# EAGLE library part XC7S50-1CSGA324C (library XC7S50-1CSGA324C)
Check availability <https://pricing.snapeda.com/parts/XC7S50-1CSGA324C/Xilinx%20Inc./view-part?ref=eda>
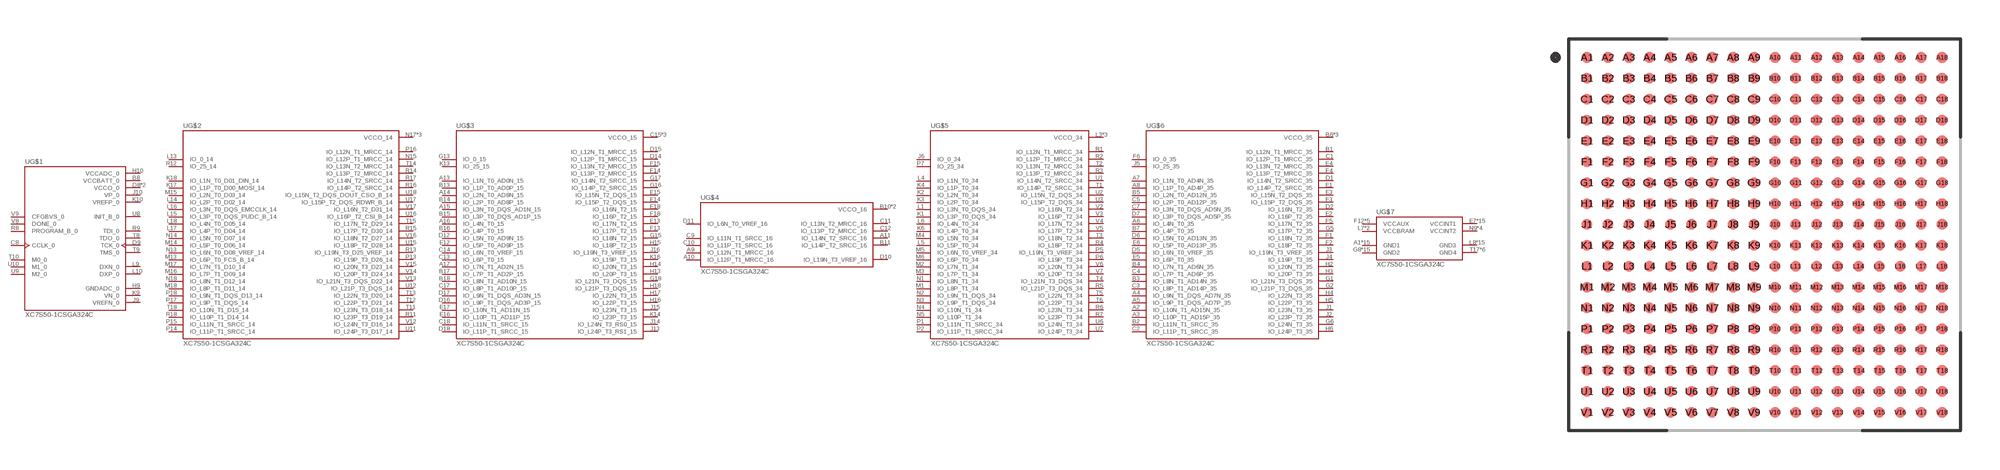
[diagram p0: symbol with the pads of BGA324C80P18X18_1500X1500X150; footprint BGA324C80P18X18_1500X1500X150]

Designator prefix U; gates G$1=XC7S50-1CSGA324C_BANK0 G$2=XC7S50-1CSGA324C_BANK14 G$3=XC7S50-1CSGA324C_BANK15 G$4=XC7S50-1CSGA324C_BANK16 G$5=XC7S50-1CSGA324C_BANK34 G$6=XC7S50-1CSGA324C_BANK35 G$7=XC7S50-1CSGA324C_POWER

## XC7S50-1CSGA324C (Availability: In Stock; Check_prices: https://www.snapeda.com/parts/XC7S50-1CSGA324C/Xilinx/view-part/?ref=eda; Description: Spartan®-7 Field Programmable Gate Array (FPGA) IC 210 2764800 52160 324-LFBGA, CSPBGA; MF: Xilinx Inc.; MP: XC7S50-1CSGA324C; Package: LFBGA-324 Xilinx; Price: None; SnapEDA_Link: https://www.snapeda.com/parts/XC7S50-1CSGA324C/Xilinx/view-part/?ref=snap)  [BGA324C80P18X18_1500X1500X150]
A1  G$7:GND1  pwr
A2  G$6:IO_L10N_T1_AD15N_35
A3  G$6:IO_L10P_T1_AD15P_35
A4  G$6:IO_L9N_T1_DQS_AD7N_35
A5  G$6:IO_L9P_T1_DQS_AD7P_35
A6  G$6:IO_L4N_T0_35
A7  G$6:IO_L1N_T0_AD4N_35
A8  G$6:IO_L1P_T0_AD4P_35
A9  G$4:IO_L12N_T1_MRCC_16
A10  G$4:IO_L12P_T1_MRCC_16
A11  G$4:IO_L14N_T2_SRCC_16
A12  G$7:GND1  pwr
A13  G$3:IO_L1N_T0_AD0N_15
A14  G$3:IO_L2N_T0_AD8N_15
A15  G$3:IO_L3N_T0_DQS_AD1N_15
A16  G$3:IO_L4N_T0_15
A17  G$3:IO_L7N_T1_AD2N_15
A18  G$7:GND1  pwr
B1  G$6:IO_L12N_T1_MRCC_35
B2  G$6:IO_L11N_T1_SRCC_35
B3  G$6:IO_L8N_T1_AD14N_35
B4  G$6:IO_L7N_T1_AD6N_35
B5  G$6:IO_L2N_T0_AD12N_35
B6  G$6:VCCO_35  pwr
B7  G$6:IO_L4P_T0_35
B8  G$1:VCCBATT_0  pwr
B9  G$7:GND1  pwr
B10  G$4:VCCO_16  pwr
B11  G$4:IO_L14P_T2_SRCC_16
B12  G$4:VCCO_16  pwr
B13  G$3:IO_L1P_T0_AD0P_15
B14  G$3:IO_L2P_T0_AD8P_15
B15  G$3:IO_L3P_T0_DQS_AD1P_15
B16  G$3:IO_L4P_T0_15
B17  G$3:IO_L7P_T1_AD2P_15
B18  G$3:IO_L8N_T1_AD10N_15
C1  G$6:IO_L12P_T1_MRCC_35
C2  G$6:IO_L11P_T1_SRCC_35
C3  G$6:IO_L8P_T1_AD14P_35
C4  G$6:IO_L7P_T1_AD6P_35
C5  G$6:IO_L2P_T0_AD12P_35
C6  G$7:GND1  pwr
C7  G$6:IO_L3N_T0_DQS_AD5N_35
C8  G$1:CCLK_0
C9  G$4:IO_L11N_T1_SRCC_16
C10  G$4:IO_L11P_T1_SRCC_16
C11  G$4:IO_L13N_T2_MRCC_16
C12  G$4:IO_L13P_T2_MRCC_16
C13  G$3:IO_L6P_T0_15
C14  G$3:IO_L6N_T0_VREF_15
C15  G$3:VCCO_15  pwr
C16  G$7:GND1  pwr
C17  G$3:IO_L8P_T1_AD10P_15
C18  G$3:IO_L11N_T1_SRCC_15
D1  G$6:IO_L14N_T2_SRCC_35
D2  G$6:IO_L16N_T2_35
D3  G$7:GND1  pwr
D4  G$6:VCCO_35  pwr
D5  G$6:IO_L6N_T0_VREF_35
D6  G$6:IO_L5N_T0_AD13N_35
D7  G$6:IO_L3P_T0_DQS_AD5P_35
D8  G$1:VCCO_0  pwr
D9  G$1:TCK_0  in
D10  G$4:IO_L19N_T3_VREF_16
D11  G$4:IO_L6N_T0_VREF_16
D12  G$3:IO_L5N_T0_AD9N_15
D13  G$7:GND1  pwr
D14  G$3:IO_L12P_T1_MRCC_15
D15  G$3:IO_L12N_T1_MRCC_15
D16  G$3:IO_L9P_T1_DQS_AD3P_15
D17  G$3:IO_L9N_T1_DQS_AD3N_15
D18  G$3:IO_L11P_T1_SRCC_15
E1  G$6:IO_L14P_T2_SRCC_35
E2  G$6:IO_L16P_T2_35
E3  G$6:IO_L15N_T2_DQS_35
E4  G$6:IO_L13N_T2_MRCC_35
E5  G$6:IO_L6P_T0_35
E6  G$6:IO_L5P_T0_AD13P_35
E7  G$7:VCCINT1  pwr
E8  G$7:GND1  pwr
E9  G$7:VCCINT1  pwr
E10  G$7:GND1  pwr
E11  G$7:VCCINT1  pwr
E12  G$3:IO_L5P_T0_AD9P_15
E13  G$3:IO_L17N_T2_15
E14  G$3:IO_L15P_T2_DQS_15
E15  G$3:IO_L15N_T2_DQS_15
E16  G$3:IO_L10P_T1_AD11P_15
E17  G$3:IO_L10N_T1_AD11N_15
E18  G$3:IO_L16N_T2_15
F1  G$6:IO_L18N_T2_35
F2  G$6:IO_L18P_T2_35
F3  G$6:IO_L15P_T2_DQS_35
F4  G$6:IO_L13P_T2_MRCC_35
F5  G$6:IO_L17N_T2_35
F6  G$6:IO_0_35
F7  G$7:GND1  pwr
F8  G$7:VCCINT1  pwr
F9  G$7:GND1  pwr
F10  G$7:VCCINT1  pwr
F11  G$7:GND1  pwr
F12  G$7:VCCAUX  pwr
F13  G$3:IO_L17P_T2_15
F14  G$3:IO_L13P_T2_MRCC_15
F15  G$3:IO_L13N_T2_MRCC_15
F16  G$3:VCCO_15  pwr
F17  G$7:GND1  pwr
F18  G$3:IO_L16P_T2_15
G1  G$6:IO_L21N_T3_DQS_35
G2  G$6:IO_L21P_T3_DQS_35
G3  G$6:VCCO_35  pwr
G4  G$7:GND1  pwr
G5  G$6:IO_L17P_T2_35
G6  G$6:IO_L24N_T3_35
G7  G$7:VCCINT1  pwr
G8  G$7:GND2  pwr
G9  G$7:VCCINT1  pwr
G10  G$7:GND2  pwr
G11  G$7:VCCINT1  pwr
G12  G$7:GND2  pwr
G13  G$3:IO_0_15
G14  G$7:GND2  pwr
G15  G$3:IO_L18N_T2_15
G16  G$3:IO_L14P_T2_SRCC_15
G17  G$3:IO_L14N_T2_SRCC_15
G18  G$3:IO_L21N_T3_DQS_15
H1  G$7:GND2  pwr
H2  G$6:IO_L20N_T3_35
H3  G$6:IO_L20P_T3_35
H4  G$6:IO_L22N_T3_35
H5  G$6:IO_L22P_T3_35
H6  G$6:IO_L24P_T3_35
H7  G$7:GND2  pwr
H8  G$7:VCCINT1  pwr
H9  G$1:GNDADC_0  pwr
H10  G$1:VCCADC_0  pwr
H11  G$7:GND2  pwr
H12  G$7:VCCAUX  pwr
H13  G$3:IO_L20P_T3_15
H14  G$3:IO_L20N_T3_15
H15  G$3:IO_L18P_T2_15
H16  G$3:IO_L22P_T3_15
H17  G$3:IO_L22N_T3_15
H18  G$3:IO_L21P_T3_DQS_15
J1  G$6:IO_L23N_T3_35
J2  G$6:IO_L23P_T3_35
J3  G$6:IO_L19N_T3_VREF_35
J4  G$6:IO_L19P_T3_35
J5  G$6:IO_25_35
J6  G$5:IO_0_34
J7  G$7:VCCINT1  pwr
J8  G$7:GND2  pwr
J9  G$1:VREFN_0  pwr
J10  G$1:VP_0  pwr
J11  G$7:VCCINT1  pwr
J12  G$7:GND2  pwr
J13  G$3:IO_L24P_T3_RS1_15
J14  G$3:IO_L24N_T3_RS0_15
J15  G$3:IO_L23N_T3_15
J16  G$3:IO_L19N_T3_VREF_15
J17  G$3:VCCO_15  pwr
J18  G$7:GND2  pwr
K1  G$5:IO_L3P_T0_DQS_34
K2  G$5:IO_L2N_T0_34
K3  G$5:IO_L2P_T0_34
K4  G$5:IO_L1P_T0_34
K5  G$7:GND2  pwr
K6  G$5:IO_L4P_T0_34
K7  G$7:GND2  pwr
K8  G$7:VCCINT1  pwr
K9  G$1:VN_0  pwr
K10  G$1:VREFP_0  pwr
K11  G$7:GND2  pwr
K12  G$7:VCCAUX  pwr
K13  G$3:IO_25_15
K14  G$3:IO_L23P_T3_15
K15  G$7:GND2  pwr
K16  G$3:IO_L19P_T3_15
K17  G$2:IO_L1P_T0_D00_MOSI_14
K18  G$2:IO_L1N_T0_D01_DIN_14
L1  G$5:IO_L3N_T0_DQS_34
L2  G$7:GND2  pwr
L3  G$5:VCCO_34  pwr
L4  G$5:IO_L1N_T0_34
L5  G$5:IO_L5P_T0_34
L6  G$5:IO_L4N_T0_34
L7  G$7:VCCBRAM  pwr
L8  G$7:GND3  pwr
L9  G$1:DXN_0
L10  G$1:DXP_0
L11  G$7:VCCINT1  pwr
L12  G$7:GND3  pwr
L13  G$2:IO_0_14
L14  G$2:IO_L2P_T0_D02_14
L15  G$2:IO_L3P_T0_DQS_PUDC_B_14
L16  G$2:IO_L3N_T0_DQS_EMCCLK_14
L17  G$2:IO_L4P_T0_D04_14
L18  G$2:IO_L4N_T0_D05_14
M1  G$5:IO_L8P_T1_34
M2  G$5:IO_L7N_T1_34
M3  G$5:IO_L7P_T1_34
M4  G$5:IO_L5N_T0_34
M5  G$5:IO_L6N_T0_VREF_34
M6  G$5:IO_L6P_T0_34
M7  G$7:GND3  pwr
M8  G$7:VCCINT1  pwr
M9  G$7:GND3  pwr
M10  G$7:VCCINT1  pwr
M11  G$7:GND3  pwr
M12  G$7:VCCAUX  pwr
M13  G$2:IO_L6P_T0_FCS_B_14
M14  G$2:IO_L5P_T0_D06_14
M15  G$2:IO_L2N_T0_D03_14
M16  G$2:IO_L7P_T1_D09_14
M17  G$2:IO_L7N_T1_D10_14
M18  G$2:IO_L8P_T1_D11_14
N1  G$5:IO_L8N_T1_34
N2  G$5:IO_L9N_T1_DQS_34
N3  G$5:IO_L9P_T1_DQS_34
N4  G$5:IO_L10N_T1_34
N5  G$5:IO_L10P_T1_34
N6  G$7:GND3  pwr
N7  G$7:VCCBRAM  pwr
N8  G$7:GND3  pwr
N9  G$7:VCCINT2  pwr
N10  G$7:GND3  pwr
N11  G$7:VCCINT2  pwr
N12  G$7:GND3  pwr
N13  G$2:IO_L6N_T0_D08_VREF_14
N14  G$2:IO_L5N_T0_D07_14
N15  G$2:IO_L12P_T1_MRCC_14
N16  G$7:GND3  pwr
N17  G$2:VCCO_14  pwr
N18  G$2:IO_L8N_T1_D12_14
P1  G$5:IO_L11N_T1_SRCC_34
P2  G$5:IO_L11P_T1_SRCC_34
P3  G$7:GND3  pwr
P4  G$5:VCCO_34  pwr
P5  G$5:IO_L19N_T3_VREF_34
P6  G$5:IO_L19P_T3_34
P7  G$5:IO_25_34
P8  G$7:VCCINT2  pwr
P9  G$7:GND3  pwr
P10  G$7:VCCINT2  pwr
P11  G$7:GND3  pwr
P12  G$7:VCCAUX  pwr
P13  G$2:IO_L19P_T3_D26_14
P14  G$2:IO_L11P_T1_SRCC_14
P15  G$2:IO_L11N_T1_SRCC_14
P16  G$2:IO_L12N_T1_MRCC_14
P17  G$2:IO_L9P_T1_DQS_14
P18  G$2:IO_L9N_T1_DQS_D13_14
R1  G$5:IO_L12N_T1_MRCC_34
R2  G$5:IO_L12P_T1_MRCC_34
R3  G$5:IO_L13P_T2_MRCC_34
R4  G$5:IO_L18P_T2_34
R5  G$5:IO_L21P_T3_DQS_34
R6  G$5:IO_L23N_T3_34
R7  G$5:IO_L23P_T3_34
R8  G$1:PROGRAM_B_0  in
R9  G$1:TDI_0  in
R10  G$7:GND3  pwr
R11  G$2:IO_L23P_T3_D19_14
R12  G$2:IO_25_14
R13  G$2:IO_L19N_T3_D25_VREF_14
R14  G$2:IO_L13P_T2_MRCC_14
R15  G$2:IO_L17P_T2_D30_14
R16  G$2:IO_L14P_T2_SRCC_14
R17  G$2:IO_L14N_T2_SRCC_14
R18  G$2:IO_L10P_T1_D14_14
T1  G$5:IO_L14P_T2_SRCC_34
T2  G$5:IO_L13N_T2_MRCC_34
T3  G$5:IO_L18N_T2_34
T4  G$5:IO_L21N_T3_DQS_34
T5  G$5:IO_L22N_T3_34
T6  G$5:IO_L22P_T3_34
T7  G$7:GND3  pwr
T8  G$1:TDO_0  out
T9  G$1:TMS_0
T10  G$1:M0_0  pas
T11  G$2:IO_L23N_T3_D18_14
T12  G$2:IO_L22P_T3_D21_14
T13  G$2:IO_L22N_T3_D20_14
T14  G$2:IO_L13N_T2_MRCC_14
T15  G$2:IO_L17N_T2_D29_14
T16  G$2:VCCO_14  pwr
T17  G$7:GND4  pwr
T18  G$2:IO_L10N_T1_D15_14
U1  G$5:IO_L14N_T2_SRCC_34
U2  G$5:IO_L15N_T2_DQS_34
U3  G$5:IO_L15P_T2_DQS_34
U4  G$7:GND4  pwr
U5  G$5:VCCO_34  pwr
U6  G$5:IO_L24N_T3_34
U7  G$5:IO_L24P_T3_34
U8  G$1:INIT_B_0  out
U9  G$1:M2_0  pas
U10  G$1:M1_0  pas
U11  G$2:IO_L24P_T3_D17_14
U12  G$2:IO_L21P_T3_DQS_14
U13  G$2:VCCO_14  pwr
U14  G$7:GND4  pwr
U15  G$2:IO_L18P_T2_D28_14
U16  G$2:IO_L16P_T2_CSI_B_14
U17  G$2:IO_L15P_T2_DQS_RDWR_B_14
U18  G$2:IO_L15N_T2_DQS_DOUT_CSO_B_14
V1  G$7:GND4  pwr
V2  G$5:IO_L16N_T2_34
V3  G$5:IO_L16P_T2_34
V4  G$5:IO_L17N_T2_34
V5  G$5:IO_L17P_T2_34
V6  G$5:IO_L20N_T3_34
V7  G$5:IO_L20P_T3_34
V8  G$1:DONE_0  in
V9  G$1:CFGBVS_0  in
V10  G$1:VCCO_0  pwr
V11  G$7:GND4  pwr
V12  G$2:IO_L24N_T3_D16_14
V13  G$2:IO_L21N_T3_DQS_D22_14
V14  G$2:IO_L20P_T3_D24_14
V15  G$2:IO_L20N_T3_D23_14
V16  G$2:IO_L18N_T2_D27_14
V17  G$2:IO_L16N_T2_D31_14
V18  G$7:GND4  pwr

## Footprint BGA324C80P18X18_1500X1500X150 (pad centres in mm)
smd 0.41 x 0.41: A1 -6.8,6.8; A2 -6,6.8; A3 -5.2,6.8; A4 -4.4,6.8; A5 -3.6,6.8; A6 -2.8,6.8; A7 -2,6.8; A8 -1.2,6.8; A9 -0.4,6.8; A10 0.4,6.8; A11 1.2,6.8; A12 2,6.8; A13 2.8,6.8; A14 3.6,6.8; A15 4.4,6.8; A16 5.2,6.8; A17 6,6.8; A18 6.8,6.8; B1 -6.8,6; B2 -6,6; B3 -5.2,6; B4 -4.4,6; B5 -3.6,6; B6 -2.8,6; B7 -2,6; B8 -1.2,6; B9 -0.4,6; B10 0.4,6; B11 1.2,6; B12 2,6; B13 2.8,6; B14 3.6,6; B15 4.4,6; B16 5.2,6; B17 6,6; B18 6.8,6; C1 -6.8,5.2; C2 -6,5.2; C3 -5.2,5.2; C4 -4.4,5.2; C5 -3.6,5.2; C6 -2.8,5.2; C7 -2,5.2; C8 -1.2,5.2; C9 -0.4,5.2; C10 0.4,5.2; C11 1.2,5.2; C12 2,5.2; C13 2.8,5.2; C14 3.6,5.2; C15 4.4,5.2; C16 5.2,5.2; C17 6,5.2; C18 6.8,5.2; D1 -6.8,4.4; D2 -6,4.4; D3 -5.2,4.4; D4 -4.4,4.4; D5 -3.6,4.4; D6 -2.8,4.4; D7 -2,4.4; D8 -1.2,4.4; D9 -0.4,4.4; D10 0.4,4.4; D11 1.2,4.4; D12 2,4.4; D13 2.8,4.4; D14 3.6,4.4; D15 4.4,4.4; D16 5.2,4.4; D17 6,4.4; D18 6.8,4.4; E1 -6.8,3.6; E2 -6,3.6; E3 -5.2,3.6; E4 -4.4,3.6; E5 -3.6,3.6; E6 -2.8,3.6; E7 -2,3.6; E8 -1.2,3.6; E9 -0.4,3.6; E10 0.4,3.6; E11 1.2,3.6; E12 2,3.6; E13 2.8,3.6; E14 3.6,3.6; E15 4.4,3.6; E16 5.2,3.6; E17 6,3.6; E18 6.8,3.6; F1 -6.8,2.8; F2 -6,2.8; F3 -5.2,2.8; F4 -4.4,2.8; F5 -3.6,2.8; F6 -2.8,2.8; F7 -2,2.8; F8 -1.2,2.8; F9 -0.4,2.8; F10 0.4,2.8; F11 1.2,2.8; F12 2,2.8; F13 2.8,2.8; F14 3.6,2.8; F15 4.4,2.8; F16 5.2,2.8; F17 6,2.8; F18 6.8,2.8; G1 -6.8,2; G2 -6,2; G3 -5.2,2; G4 -4.4,2; G5 -3.6,2; G6 -2.8,2; G7 -2,2; G8 -1.2,2; G9 -0.4,2; G10 0.4,2; G11 1.2,2; G12 2,2; G13 2.8,2; G14 3.6,2; G15 4.4,2; G16 5.2,2; G17 6,2; G18 6.8,2; H1 -6.8,1.2; H2 -6,1.2; H3 -5.2,1.2; H4 -4.4,1.2; H5 -3.6,1.2; H6 -2.8,1.2; H7 -2,1.2; H8 -1.2,1.2; H9 -0.4,1.2; H10 0.4,1.2; H11 1.2,1.2; H12 2,1.2; H13 2.8,1.2; H14 3.6,1.2; H15 4.4,1.2; H16 5.2,1.2; H17 6,1.2; H18 6.8,1.2; J1 -6.8,0.4; J2 -6,0.4; J3 -5.2,0.4; J4 -4.4,0.4; J5 -3.6,0.4; J6 -2.8,0.4; J7 -2,0.4; J8 -1.2,0.4; J9 -0.4,0.4; J10 0.4,0.4; J11 1.2,0.4; J12 2,0.4; J13 2.8,0.4; J14 3.6,0.4; J15 4.4,0.4; J16 5.2,0.4; J17 6,0.4; J18 6.8,0.4; K1 -6.8,-0.4; K2 -6,-0.4; K3 -5.2,-0.4; K4 -4.4,-0.4; K5 -3.6,-0.4; K6 -2.8,-0.4; K7 -2,-0.4; K8 -1.2,-0.4; K9 -0.4,-0.4; K10 0.4,-0.4; K11 1.2,-0.4; K12 2,-0.4; K13 2.8,-0.4; K14 3.6,-0.4; K15 4.4,-0.4; K16 5.2,-0.4; K17 6,-0.4; K18 6.8,-0.4; L1 -6.8,-1.2; L2 -6,-1.2; L3 -5.2,-1.2; L4 -4.4,-1.2; L5 -3.6,-1.2; L6 -2.8,-1.2; L7 -2,-1.2; L8 -1.2,-1.2; L9 -0.4,-1.2; L10 0.4,-1.2; L11 1.2,-1.2; L12 2,-1.2; L13 2.8,-1.2; L14 3.6,-1.2; L15 4.4,-1.2; L16 5.2,-1.2; L17 6,-1.2; L18 6.8,-1.2; M1 -6.8,-2; M2 -6,-2; M3 -5.2,-2; M4 -4.4,-2; M5 -3.6,-2; M6 -2.8,-2; M7 -2,-2; M8 -1.2,-2; M9 -0.4,-2; M10 0.4,-2; M11 1.2,-2; M12 2,-2; M13 2.8,-2; M14 3.6,-2; M15 4.4,-2; M16 5.2,-2; M17 6,-2; M18 6.8,-2; N1 -6.8,-2.8; N2 -6,-2.8; N3 -5.2,-2.8; N4 -4.4,-2.8; N5 -3.6,-2.8; N6 -2.8,-2.8; N7 -2,-2.8; N8 -1.2,-2.8; N9 -0.4,-2.8; N10 0.4,-2.8; N11 1.2,-2.8; N12 2,-2.8; N13 2.8,-2.8; N14 3.6,-2.8; N15 4.4,-2.8; N16 5.2,-2.8; N17 6,-2.8; N18 6.8,-2.8; P1 -6.8,-3.6; P2 -6,-3.6; P3 -5.2,-3.6; P4 -4.4,-3.6; P5 -3.6,-3.6; P6 -2.8,-3.6; P7 -2,-3.6; P8 -1.2,-3.6; P9 -0.4,-3.6; P10 0.4,-3.6; P11 1.2,-3.6; P12 2,-3.6; P13 2.8,-3.6; P14 3.6,-3.6; P15 4.4,-3.6; P16 5.2,-3.6; P17 6,-3.6; P18 6.8,-3.6; R1 -6.8,-4.4; R2 -6,-4.4; R3 -5.2,-4.4; R4 -4.4,-4.4; R5 -3.6,-4.4; R6 -2.8,-4.4; R7 -2,-4.4; R8 -1.2,-4.4; R9 -0.4,-4.4; R10 0.4,-4.4; R11 1.2,-4.4; R12 2,-4.4; R13 2.8,-4.4; R14 3.6,-4.4; R15 4.4,-4.4; R16 5.2,-4.4; R17 6,-4.4; R18 6.8,-4.4; T1 -6.8,-5.2; T2 -6,-5.2; T3 -5.2,-5.2; T4 -4.4,-5.2; T5 -3.6,-5.2; T6 -2.8,-5.2; T7 -2,-5.2; T8 -1.2,-5.2; T9 -0.4,-5.2; T10 0.4,-5.2; T11 1.2,-5.2; T12 2,-5.2; T13 2.8,-5.2; T14 3.6,-5.2; T15 4.4,-5.2; T16 5.2,-5.2; T17 6,-5.2; T18 6.8,-5.2; U1 -6.8,-6; U2 -6,-6; U3 -5.2,-6; U4 -4.4,-6; U5 -3.6,-6; U6 -2.8,-6; U7 -2,-6; U8 -1.2,-6; U9 -0.4,-6; U10 0.4,-6; U11 1.2,-6; U12 2,-6; U13 2.8,-6; U14 3.6,-6; U15 4.4,-6; U16 5.2,-6; U17 6,-6; U18 6.8,-6; V1 -6.8,-6.8; V2 -6,-6.8; V3 -5.2,-6.8; V4 -4.4,-6.8; V5 -3.6,-6.8; V6 -2.8,-6.8; V7 -2,-6.8; V8 -1.2,-6.8; V9 -0.4,-6.8; V10 0.4,-6.8; V11 1.2,-6.8; V12 2,-6.8; V13 2.8,-6.8; V14 3.6,-6.8; V15 4.4,-6.8; V16 5.2,-6.8; V17 6,-6.8; V18 6.8,-6.8